# Altium integrated library 2176051-5.IntLib: 1 symbol
Pins are listed as number, name and electrical type; pins without a type are passive.

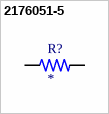
[diagram p0: symbol 2176051-5]

## 2176051-5
designator R?
RLP73M 1J R075 1% 1K RL; MP: 2176051-5; Package: None; Price: None; Value: *; Availability: Unavailable
footprint RESC1608X50N
pins: 1, 2